# EAGLE library part AD7789BRMZ (library AD7789BRMZ)
AD7789BRMZ, 24-Bit Analogue to Digital Converter, Differential, SPI, 10-Pin MSOP Source: Datasheet <http://www.analog.com/static/imported-files/data_sheets/AD7788_7789.pdf>
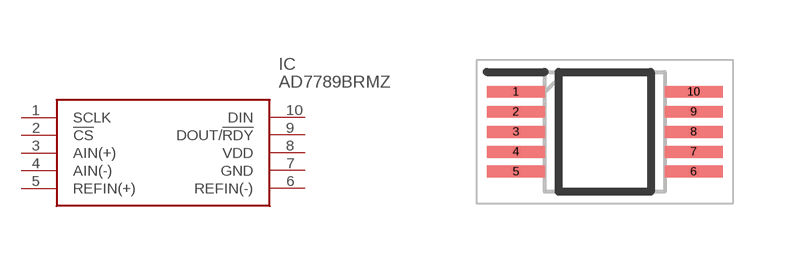
[diagram p0: symbol with the pads of SOP50P490X110-10N; footprint SOP50P490X110-10N]

Designator prefix IC

## AD7789BRMZ (Arrow_Part_Number: AD7789BRMZ; Arrow_Price-Stock: https://www.arrow.com/en/products/ad7789brmz/analog-devices; Description: AD7789BRMZ, 24-Bit Analogue to Digital Converter, Differential, SPI, 10-Pin MSOP; Height: 1.1mm; Manufacturer_Name: Analog Devices; Manufacturer_Part_Number: AD7789BRMZ; Mouser_Part_Number: 584-AD7789BRMZ; Mouser_Price-Stock: https://www.mouser.co.uk/ProductDetail/Analog-Devices/AD7789BRMZ?qs=%2FtpEQrCGXCwzl1A7TnG0Ng%3D%3D)  [SOP50P490X110-10N]
1  SCLK
2  !CS
3  AIN(+)
4  AIN(-)
5  REFIN(+)
6  REFIN(-)
7  GND
8  VDD
9  DOUT/!RDY
10  DIN

## Footprint SOP50P490X110-10N (pad centres in mm)
MSOP 10
smd 1.45 x 0.3: 1 -2.225,1; 2 -2.225,0.5; 3 -2.225,0; 4 -2.225,-0.5; 5 -2.225,-1; 6 2.225,-1; 7 2.225,-0.5; 8 2.225,0; 9 2.225,0.5; 10 2.225,1